# Altium footprint library 0402-SPLIT-3-0.55mm.PcbLib: 1 footprints
Each footprint in its own frame and in the unit in brackets; x right, y up, seen from the top. Pads: shape width x height; smd on the part's side, far side on the other; paste and mask are expansions set on the pad; w line width, h text height; cw(c..) or ccw(c..) is an arc to the next point about the centre after c.
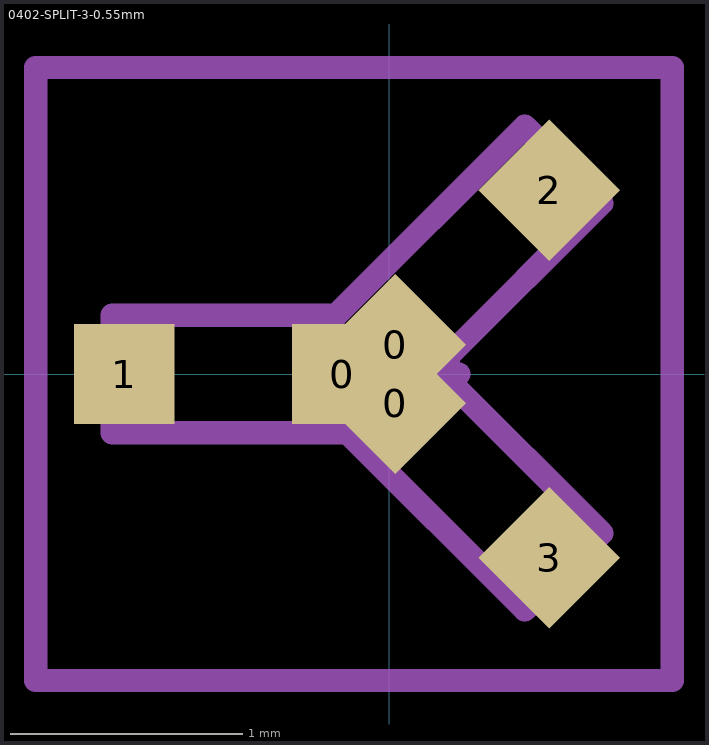
[diagram p0: the footprint, top view; thin cyan lines are the x and y axes]

## 0402-SPLIT-3-0.55mm [mil]
height 21.65
pads (6):
  rect 17x17 smd paste-2.36: 0(-8,0) 1(-45,0)
  rect 17x17 smd rot 135 paste-2.36: 0(1,-5) 3(27.16,-31.16)
  rect 17x17 smd rot 45 paste-2.36: 0(1,5) 2(27.16,31.16)
Mechanical 1:
  text ".Designator" at -30.51,-10.83 h39.37
Mechanical 13:
  lines w4: -47,-10 -7,-10 23,-40 36,-27 10,-1 10,3 36,29 23,42 -9,10 -47,10 -47,-10
Mechanical 15:
  lines w3.94: -11.81,0 11.81,0 ; 0,-11.81 0,11.81 ; -60,-52 -60,52 48,52 48,-52 -60,-52
3D body: height 19.68, standoff 0, extent -46.68,-9.84 -7.31,9.85
3D body: height 19.68, standoff 0, extent -4.88,0.12 36.88,41.88
3D body: height 19.68, standoff 0, extent -4.88,-41.88 36.88,-0.12